# Altium schematic symbol library Sensors.SchLib: 5 symbols
Pins are listed as number, name and electrical type; pins without a type are passive.

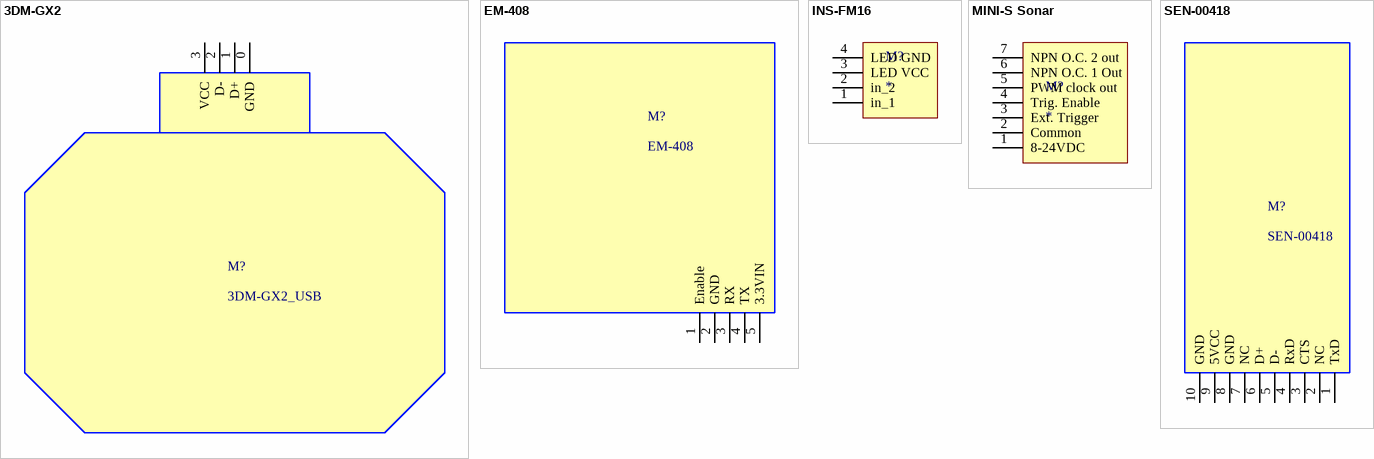
[diagram p0: symbols 3DM-GX2 to SEN-00418]

## 3DM-GX2
designator M?, comment 3DM-GX2_USB
MicroStrain 3DM-GX2 Inertial Measurement Unit, USB output
footprint 3DM-GX2 (MicroStrain 3DM-GX2 USB Inetial Measurement Unit (IMU))
footprint 3DM-GX2_NC (MicroStrain 3DM-GX2 (Not Connected to board) Inetial Measurement Unit (IMU))
pins: 0 GND, 1 D+, 2 D-, 3 VCC

## EM-408
designator M?
GlobalStat EM-408 Global Positioning System (GPS)
footprint EM-408 (GlobalSat EM-408 Global Positioning System (GPS))
pins: 1 Enable, 2 GND, 3 RX, 4 TX, 5 3.3VIN

## INS-FM16
designator M?
Koolance Flow meter
footprint INS-FM16 (Koolance Flowmeter)
pins: 1 in_1 , 2 in_2, 3 LED VCC, 4 LED GND

## MINI-S Sonar
designator M?
SensComp MINI-S Ultrasonic Sensor
footprint MINI-S Sonar (SensComp MINI-S Ultrasonic Sensor)
pins: 1 8-24VDC, 2 Common, 3 Ext. Trigger, 4 Trig. Enable, 5 PWM clock out, 6 NPN O.C. 1 Out, 7 NPN O.C. 2 out

## SEN-00418
designator M?
MicroMag 3-Axis magnetometer Eval Board Kit from SparkFun
footprint SEN00418 (MicroMag 3Axis Magnetometer SparkFun Eval Board)
pins: 1 TxD, 2 NC, 3 CTS, 4 RxD, 5 D-, 6 D+, 7 NC, 8 GND, 9 5VCC, 10 GND